# Altium footprint library SW_MOM_DPDT.PcbLib: 1 footprints
Each footprint in its own frame and in the unit in brackets; x right, y up, seen from the top. Pads: shape width x height; smd on the part's side, far side on the other; paste and mask are expansions set on the pad; w line width, h text height; cw(c..) or ccw(c..) is an arc to the next point about the centre after c.
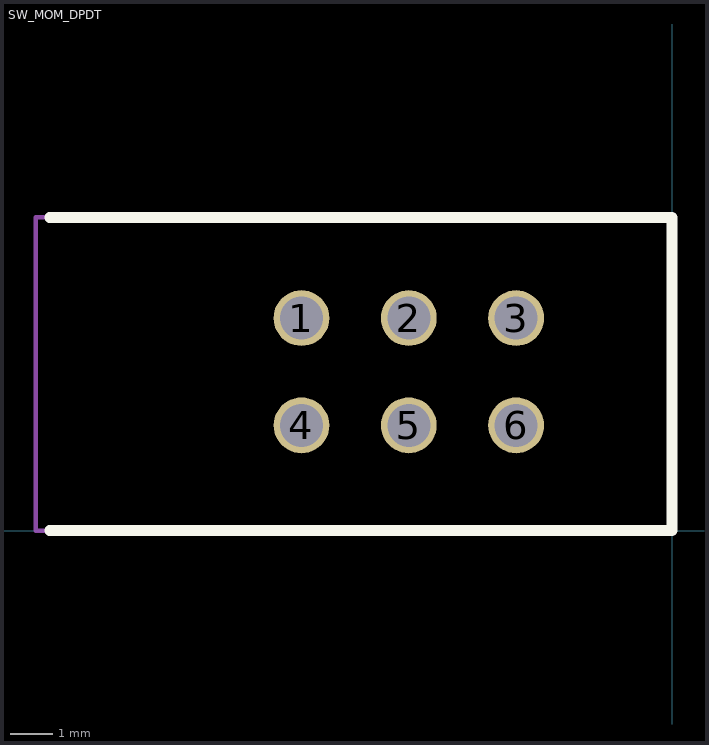
[diagram p0: the footprint, top view; thin cyan lines are the x and y axes]

## SW_MOM_DPDT [mm]
pads (6):
  round 1.3 hole 1: 1(-8.636,4.953) 2(-6.136,4.953) 3(-3.636,4.953) 4(-8.636,2.453) 5(-6.136,2.453) 6(-3.636,2.453)
Top Overlay:
  lines w0.254: -14.5,0 0,0 0,7.3 -14.5,7.3
Mechanical 1:
  lines w0.1: -14.825,0 0,0 0,7.3 -14.825,7.3 -14.825,0
  text "Off PCB Edge" at -16.367,5.842 h0.76
  text ".Designator" at -12.446,3.429 h0.6
3D body "SW_MOM_DPDT.STEP": height 9.16, standoff -3.99, extent -25.2,0.033 0,7.333